# Altium footprint library 杂项库.PcbLib: 585 footprints (part 20 of 37)
Each footprint in its own frame and in the unit in brackets; x right, y up, seen from the top. Pads: shape width x height; smd on the part's side, far side on the other; paste and mask are expansions set on the pad; w line width, h text height; cw(c..) or ccw(c..) is an arc to the next point about the centre after c.
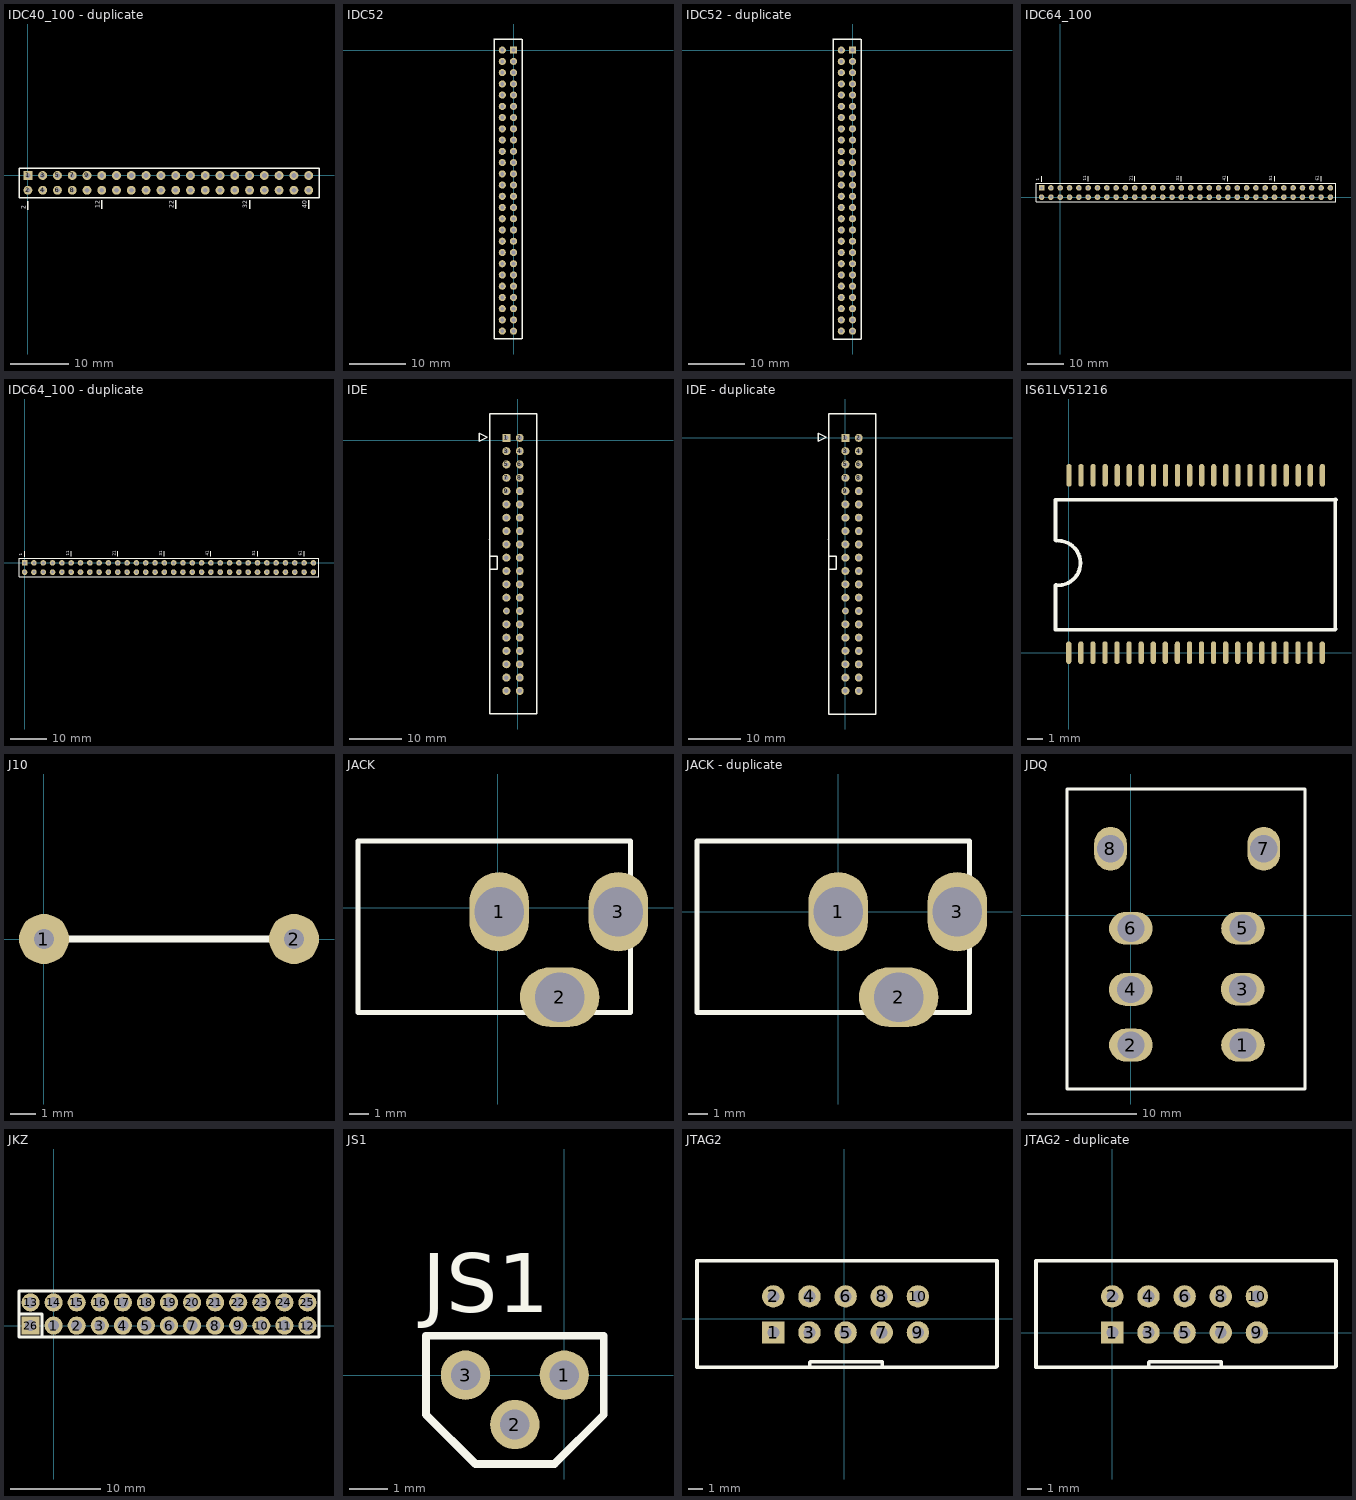
[diagram p19: the footprints below, top view; thin cyan lines are the x and y axes]

## IDC40_100 - duplicate [mil]
pads (40):
  rect 60x60 hole 33: 1(0,0)
  round 60 hole 33: 2(0,-100) 3(100,0) 4(100,-100) 5(200,0) 6(200,-100) 7(300,0) 8(300,-100) 9(400,0) 10(400,-100) 11(500,0) 12(500,-100) 13(600,0) 14(600,-100) 15(700,0) 16(700,-100) 17(800,0) 18(800,-100) 19(900,0) 20(900,-100) 21(1000,0) 22(1000,-100) 23(1100,0) 24(1100,-100) 25(1200,0) 26(1200,-100) 27(1300,0) 28(1300,-100) 29(1400,0) 30(1400,-100) 31(1500,0) 32(1500,-100) 33(1600,0) 34(1600,-100) 35(1700,0) 36(1700,-100) 37(1800,0) 38(1800,-100) 39(1900,0) 40(1900,-100)
Top Overlay:
  lines w10: 0,-233 0,-175 ; 500,-226 500,-168 ; 1000,-226 1000,-168 ; 1500,-226 1500,-168 ; 1900,-226 1900,-168 ; -60,-150 1970,-150 1970,50 -60,50 -60,-150
  text "40" at 1886,-222 h30
  text "32" at 1486,-222 h30
  text "22" at 986,-222 h30
  text "12" at 486,-222 h30
  text "2" at -14,-229 h30

## IDC52 [mil]
pads (52):
  rect 50x50 hole 27: 1(-0.22,0.47)
  round 50 hole 27: 2(-78.96,0.47) 3(-0.22,-78.28) 4(-78.96,-78.28) 5(-0.22,-157.02) 6(-78.96,-157.02) 7(-0.22,-235.76) 8(-78.96,-235.76) 9(-0.22,-314.5) 10(-78.96,-314.5) 11(-0.22,-393.24) 12(-78.96,-393.24) 13(-0.22,-471.98) 14(-78.96,-471.98) 15(-0.22,-550.72) 16(-78.96,-550.72) 17(-0.31,-629.82) 18(-79.06,-629.82) 19(-0.31,-708.56) 20(-79.05,-708.56) 21(-0.31,-787.3) 22(-79.05,-787.3) 23(-0.31,-866.04) 24(-79.05,-866.04) 25(-0.31,-944.78) 26(-79.05,-944.78) 27(-0.31,-1023.52) 28(-79.05,-1023.52) 29(-0.31,-1102.26) 30(-79.05,-1102.26) 31(-0.31,-1181) 32(-79.05,-1181) 33(-0.31,-1259.74) 34(-79.05,-1259.74) 35(-0.31,-1338.48) 36(-79.05,-1338.48) 37(-0.31,-1417.22) 38(-79.05,-1417.22) 39(-0.31,-1495.96) 40(-79.05,-1495.96) 41(-0.31,-1574.7) 42(-79.05,-1574.7) 43(-0.31,-1653.44) 44(-79.05,-1653.44) 45(-0.31,-1732.18) 46(-79.05,-1732.18) 47(-0.31,-1810.92) 48(-79.05,-1810.92) 49(-0.31,-1889.66) 50(-79.05,-1889.66) 51(-0.31,-1968.4) 52(-79.05,-1968.4)
Top Overlay:
  lines w10: -136.81,36.6 -135.31,35.1 -135.31,-2023.4 58.94,-2023.4 ; -135.31,19.68 -135.31,76.26 -137.8,78.74 58.7,78.74 ; 59.69,-2023.4 59.69,36.6 ; 59.69,19.68 59.69,77.76

## IDC52 - duplicate [mil]
pads (52):
  rect 50x50 hole 27: 1(0,0)
  round 50 hole 27: 2(-78.74,0) 3(0,-78.74) 4(-78.74,-78.74) 5(0,-157.48) 6(-78.74,-157.48) 7(0,-236.22) 8(-78.74,-236.22) 9(0,-314.96) 10(-78.74,-314.96) 11(0,-393.7) 12(-78.74,-393.7) 13(0,-472.44) 14(-78.74,-472.44) 15(0,-551.18) 16(-78.74,-551.18) 17(-0.09,-630.28) 18(-78.83,-630.28) 19(-0.09,-709.02) 20(-78.83,-709.02) 21(-0.09,-787.76) 22(-78.83,-787.76) 23(-0.09,-866.5) 24(-78.83,-866.5) 25(-0.09,-945.24) 26(-78.83,-945.25) 27(-0.09,-1023.99) 28(-78.83,-1023.99) 29(-0.09,-1102.72) 30(-78.83,-1102.72) 31(-0.09,-1181.46) 32(-78.83,-1181.46) 33(-0.09,-1260.2) 34(-78.83,-1260.2) 35(-0.09,-1338.94) 36(-78.83,-1338.94) 37(-0.09,-1417.69) 38(-78.83,-1417.69) 39(-0.09,-1496.43) 40(-78.83,-1496.43) 41(-0.09,-1575.17) 42(-78.83,-1575.17) 43(-0.09,-1653.91) 44(-78.83,-1653.91) 45(-0.09,-1732.65) 46(-78.83,-1732.65) 47(-0.09,-1811.39) 48(-78.83,-1811.39) 49(-0.09,-1890.13) 50(-78.83,-1890.13) 51(-0.09,-1968.87) 52(-78.83,-1968.87)
Top Overlay:
  lines w10: -136.59,36.13 -135.09,34.64 -135.09,-2023.87 59.16,-2023.87 ; -135.09,19.22 -135.09,75.79 -137.57,78.28 58.92,78.28 ; 59.91,-2023.87 59.91,36.13 ; 59.91,19.22 59.91,77.29

## IDC64_100 [mil]
pads (64):
  rect 60x60 hole 33: 1(-200,100)
  round 60 hole 33: 2(-200,0) 3(-100,100) 4(-100,0) 5(0,100) 6(0,0) 7(100,100) 8(100,0) 9(200,100) 10(200,0) 11(300,100) 12(300,0) 13(400,100) 14(400,0) 15(500,100) 16(500,0) 17(600,100) 18(600,0) 19(700,100) 20(700,0) 21(800,100) 22(800,0) 23(900,100) 24(900,0) 25(1000,100) 26(1000,0) 27(1100,100) 28(1100,0) 29(1200,100) 30(1200,0) 31(1300,100) 32(1300,0) 33(1400,100) 34(1400,0) 35(1500,100) 36(1500,0) 37(1600,100) 38(1600,0) 39(1700,100) 40(1700,0) 41(1800,100) 42(1800,0) 43(1900,100) 44(1900,0) 45(2000,100) 46(2000,0) 47(2100,100) 48(2100,0) 49(2200,100) 50(2200,0) 51(2300,100) 52(2300,0) 53(2400,100) 54(2400,0) 55(2500,100) 56(2500,0) 57(2600,100) 58(2600,0) 59(2700,100) 60(2700,0) 61(2800,100) 62(2800,0) 63(2900,100) 64(2900,0)
Top Overlay:
  lines w10: -200,168 -200,223 ; 300,171 300,226 ; 800,171 800,226 ; 1300,171 1300,226 ; 1800,171 1800,226 ; 2300,171 2300,226 ; 2800,171 2800,226 ; -260,-50 -260,150 2960,150 2960,-50 -260,-50
  text "1" at -223,175 h30
  text "11" at 277,178 h30
  text "21" at 777,178 h30
  text "31" at 1277,178 h30
  text "41" at 1777,178 h30
  text "51" at 2277,178 h30
  text "61" at 2777,178 h30

## IDC64_100 - duplicate [mil]
pads (64):
  rect 60x60 hole 33: 1(0,0)
  round 60 hole 33: 2(0,-100) 3(100,0) 4(100,-100) 5(200,0) 6(200,-100) 7(300,0) 8(300,-100) 9(400,0) 10(400,-100) 11(500,0) 12(500,-100) 13(600,0) 14(600,-100) 15(700,0) 16(700,-100) 17(800,0) 18(800,-100) 19(900,0) 20(900,-100) 21(1000,0) 22(1000,-100) 23(1100,0) 24(1100,-100) 25(1200,0) 26(1200,-100) 27(1300,0) 28(1300,-100) 29(1400,0) 30(1400,-100) 31(1500,0) 32(1500,-100) 33(1600,0) 34(1600,-100) 35(1700,0) 36(1700,-100) 37(1800,0) 38(1800,-100) 39(1900,0) 40(1900,-100) 41(2000,0) 42(2000,-100) 43(2100,0) 44(2100,-100) 45(2200,0) 46(2200,-100) 47(2300,0) 48(2300,-100) 49(2400,0) 50(2400,-100) 51(2500,0) 52(2500,-100) 53(2600,0) 54(2600,-100) 55(2700,0) 56(2700,-100) 57(2800,0) 58(2800,-100) 59(2900,0) 60(2900,-100) 61(3000,0) 62(3000,-100) 63(3100,0) 64(3100,-100)
Top Overlay:
  lines w10: 0,68 0,123 ; 500,71 500,126 ; 1000,71 1000,126 ; 1500,71 1500,126 ; 2000,71 2000,126 ; 2500,71 2500,126 ; 3000,71 3000,126 ; -60,-150 -60,50 3160,50 3160,-150 -60,-150
  text "1" at -23,75 h30
  text "11" at 477,78 h30
  text "21" at 977,78 h30
  text "31" at 1477,78 h30
  text "41" at 1977,78 h30
  text "51" at 2477,78 h30
  text "61" at 2977,78 h30

## IDE [mil]
pads (40):
  rect 60x60 hole 33: 1(-86.18,17.24)
  round 60 hole 33: 2(13.82,17.24) 3(-86.18,-82.76) 4(13.82,-82.76) 5(-86.18,-182.76) 6(13.82,-182.76) 7(-86.18,-282.76) 8(13.82,-282.76) 9(-86.18,-382.76) 10(13.82,-382.76) 11(-86.18,-482.76) 12(13.82,-482.76) 13(-86.18,-582.76) 14(13.82,-582.76) 15(-86.18,-682.76) 16(13.82,-682.76) 17(-86.18,-782.76) 18(13.82,-782.76) 19(-86.18,-882.76) 20(13.82,-882.76) 21(-86.18,-982.76) 22(13.82,-982.76) 23(-86.18,-1082.76) 24(13.82,-1082.76) 25(-86.18,-1182.76) 26(13.82,-1182.76) 28(13.82,-1282.76) 29(-86.18,-1382.76) 30(13.82,-1382.76) 31(-86.18,-1482.76) 32(13.82,-1482.76) 33(-86.18,-1582.76) 34(13.82,-1582.76) 35(-86.18,-1682.76) 36(13.82,-1682.76) 37(-86.18,-1782.76) 38(13.82,-1782.76) 39(-86.18,-1882.76) 40(13.82,-1882.76)
  round 51.18 hole 27.56: 27(-86.18,-1282.76)
Top Overlay:
  lines w10: -215.63,-870 -155,-870 -155,-970 -213.27,-970 ; -213.74,-746.53 -211.38,-744.17 ; -290.96,-8.5 -230.96,21.5 -290.96,51.5 -290.96,-8.5 ; -212.16,-2055.98 -212.16,195.98 142.16,195.98 142.16,-2055.98 -212.16,-2055.98

## IDE - duplicate [mil]
pads (40):
  rect 60x60 hole 33: 1(0,0)
  round 60 hole 33: 2(100,0) 3(0,-100) 4(100,-100) 5(0,-200) 6(100,-200) 7(0,-300) 8(100,-300) 9(0,-400) 10(100,-400) 11(0,-500) 12(100,-500) 13(0,-600) 14(100,-600) 15(0,-700) 16(100,-700) 17(0,-800) 18(100,-800) 19(0,-900) 20(100,-900) 21(0,-1000) 22(100,-1000) 23(0,-1100) 24(100,-1100) 25(0,-1200) 26(100,-1200) 28(100,-1300) 29(0,-1400) 30(100,-1400) 31(0,-1500) 32(100,-1500) 33(0,-1600) 34(100,-1600) 35(0,-1700) 36(100,-1700) 37(0,-1800) 38(100,-1800) 39(0,-1900) 40(100,-1900)
  round 51.18 hole 27.56: 27(0,-1300)
Top Overlay:
  lines w10: -129.45,-887.24 -68.82,-887.24 -68.82,-987.24 -127.09,-987.24 ; -127.56,-763.78 -125.2,-761.42 ; -204.78,-25.74 -204.78,34.26 -144.78,4.26 -204.78,-25.74 ; -125.98,-2073.23 228.35,-2073.23 228.35,178.74 -125.98,178.74 -125.98,-2073.23

## IS61LV51216 [mm]
pads (44):
  oval 0.35x1.5 smd: 1(0,0) 2(0.8,0) 3(1.6,0) 4(2.4,0) 5(3.2,0) 6(4,0) 7(4.8,0) 8(5.6,0) 9(6.4,0) 10(7.2,0) 11(8,0) 12(8.8,0) 13(9.6,0) 14(10.4,0) 15(11.2,0) 16(12,0) 17(12.8,0) 18(13.6,0) 19(14.4,0) 20(15.2,0) 21(15.989,0) 22(16.802,0) 23(16.813,11.76) 24(16.013,11.76) 25(15.213,11.76) 26(14.413,11.76) 27(13.613,11.76) 28(12.813,11.76) 29(12.013,11.76) 30(11.213,11.76) 31(10.413,11.76) 32(9.613,11.76) 33(8.813,11.76) 34(8.013,11.76) 35(7.213,11.76) 36(6.413,11.76) 37(5.613,11.76) 38(4.813,11.76) 39(4.013,11.76) 40(3.213,11.76) 41(2.413,11.76) 42(1.613,11.76) 43(0.813,11.76) 44(0.013,11.76)
Top Overlay:
  lines w0.254: -0.877,10.135 -0.877,7.468 -0.826,7.417 ; -0.851,4.496 -0.877,4.47 -0.877,1.524 17.64,1.524 17.691,1.575 ; -0.851,10.135 17.716,10.135 ; -0.699,7.417 cw(c-0.699,5.943) -0.673,4.47 ; 17.664,1.548 17.664,10.134 17.691,10.16

## J10 [mm]
pads (2):
  round 2 hole 0.8: 1(0,0) 2(10,0)
Top Overlay:
  lines w0.3: 0,0 10,0

## JACK [mm]
pads (3):
  oval 3x4 hole 2.5: 1(0.069,-0.191) 3(6.069,-0.191)
  oval 4x3 hole 2.5: 2(3.117,-4.491)
Top Overlay:
  lines w0.254: 6.673,-4.839 6.673,3.365 -7.043,3.365 -7.043,-5.271 6.673,-5.271 6.673,-4.255

## JACK - duplicate [mm]
pads (3):
  oval 3x4 hole 2.5: 1(0,0) 3(6,0)
  oval 4x3 hole 2.5: 2(3.048,-4.3)
Top Overlay:
  lines w0.254: 6.604,-4.648 6.604,3.556 -7.112,3.556 -7.112,-5.08 6.604,-5.08 6.604,-4.064

## JDQ [mm]
pads (8):
  oval 4x3 hole 2.5: 1(10.3,-11.9) 2(0.028,-11.9) 3(10.272,-6.773) 4(0,-6.8) 5(10.3,-1.2) 6(0.028,-1.2)
  oval 3x4 hole 2.5: 7(12.2,6.1) 8(-1.846,6.1)
Top Overlay:
  lines w0.254: -5.844,-15.929 -5.844,-13.313 -5.844,10.055 -5.844,10.563 -5.844,11.071 -5.844,11.579 16,11.579 16,11.071 16,10.563 16,-13.821 16,-15.929 -5.844,-15.929

## JKZ [mm]
pads (26):
  round 2 hole 1.2: 1(0,0) 2(2.54,0) 3(5.08,0) 4(7.62,0) 5(10.16,0) 6(12.7,0) 7(15.24,0) 8(17.78,0) 9(20.32,0) 10(22.86,0) 11(25.4,0) 12(27.94,0) 13(-2.54,2.54) 14(0,2.54) 15(2.54,2.54) 16(5.08,2.54) 17(7.62,2.54) 18(10.16,2.54) 19(12.7,2.54) 20(15.24,2.54) 21(17.78,2.54) 22(20.32,2.54) 23(22.86,2.54) 24(25.4,2.54) 25(27.94,2.54)
  rect 2x2 hole 1.2: 26(-2.54,0)
Top Overlay:
  lines w0.305: -3.81,1.27 -1.27,1.27 -1.27,-1.27 ; -3.81,-1.27 29.21,-1.27 29.21,3.81 -3.81,3.81 -3.81,-1.27

## JS1 [mil]
pads (3):
  round 50 hole 30: 1(0,0) 2(-50,-50) 3(-100,0)
Top Overlay:
  lines w8: -140,-40 -90,-90 -10,-90 40,-40 40,40 -140,40 -140,-40
  text "JS1" at -144,64 h60

## JTAG2 [mil]
pads (10):
  rect 62x62 hole 33: 1(-195.85,-38.74)
  round 62 hole 33: 2(-195.85,61.26) 3(-95.85,-38.74) 4(-95.85,61.26) 5(4.15,-38.74) 6(4.15,61.26) 7(104.15,-38.74) 8(104.15,61.26) 9(204.15,-38.74) 10(204.15,61.26)
Top Overlay:
  lines w10: -95,-135 -95,-121 -94,-120 105,-120 105,-135 ; -407,-135 -407,160 423,160 423,-132 420,-135 -407,-135

## JTAG2 - duplicate [mil]
pads (10):
  rect 62x62 hole 33: 1(0,0)
  round 62 hole 33: 2(0,100) 3(100,0) 4(100,100) 5(200,0) 6(200,100) 7(300,0) 8(300,100) 9(400,0) 10(400,100)
Top Overlay:
  lines w10: 100.85,-96.26 100.85,-82.26 101.85,-81.26 300.85,-81.26 300.85,-96.26 ; -211.15,-96.26 -211.15,198.74 618.85,198.74 618.85,-93.26 615.85,-96.26 -211.15,-96.26